# Altium integrated library C1206F104K4RACAUTO.IntLib: 1 symbol
Pins are listed as number, name and electrical type; pins without a type are passive.

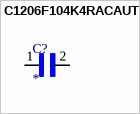
[diagram p0: symbol C1206F104K4RACAUTO]

## C1206F104K4RACAUTO
designator C?
MP: C1206F104K4RACAUTO; Package: None; Price: None; Value: *; Availability: Unavailable
footprint CAPC3216X110N
footprint CAPC3216X110N
pins: 1, 2